# EAGLE library part MAX4208 (library yapo)
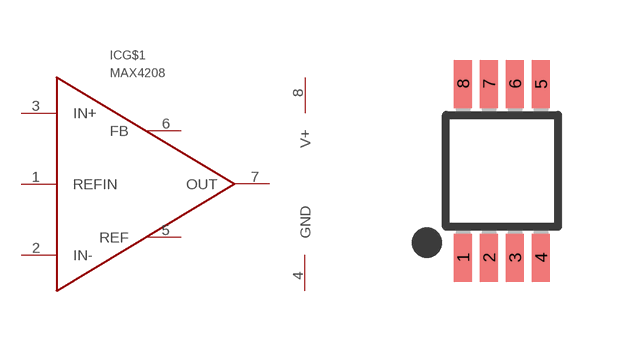
[diagram p10: symbol with the pads of TEMP_UMAX8; footprint TEMP_UMAX8]

Designator prefix IC; gates G$1=MAX4208 G$2=OP_AMP_SUPPLY

## MAX4208  [TEMP_UMAX8]
1  G$1:REFIN
2  G$1:IN-
3  G$1:IN+
4  G$2:GND
5  G$1:REF
6  G$1:FB
7  G$1:OUT
8  G$2:V+

## Footprint TEMP_UMAX8 (pad centres in mm)
micro MAX Package
smd 0.45 x 1.2: 1 -0.975,-2.175; 2 -0.325,-2.175; 3 0.325,-2.175; 4 0.975,-2.175; 5 0.975,2.175; 6 0.325,2.175; 7 -0.325,2.175; 8 -0.975,2.175